# Altium footprint library SJ1-3533NG.PcbLib: 1 footprints
Each footprint in its own frame and in the unit in brackets; x right, y up, seen from the top. Pads: shape width x height; smd on the part's side, far side on the other; paste and mask are expansions set on the pad; w line width, h text height; cw(c..) or ccw(c..) is an arc to the next point about the centre after c.
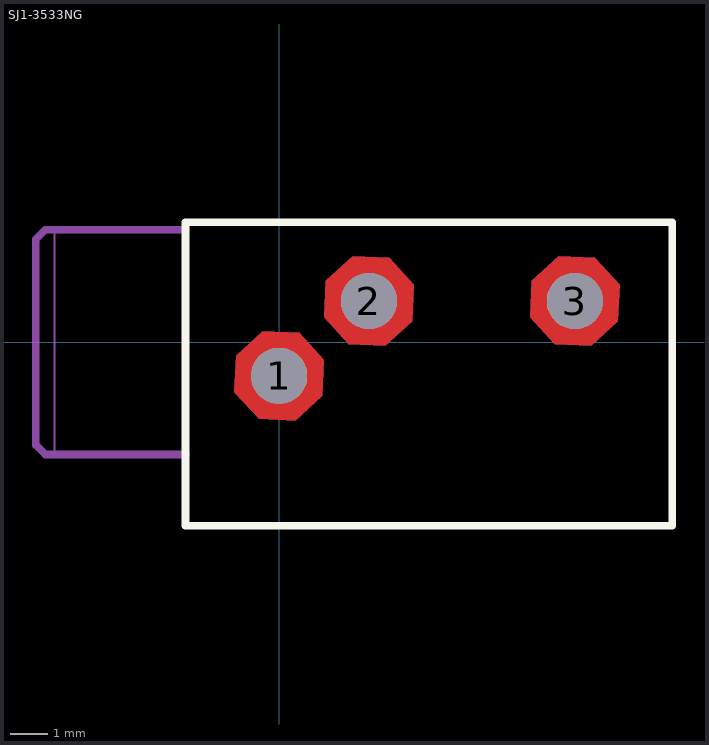
[diagram p0: the footprint, top view; thin cyan lines are the x and y axes]

## SJ1-3533NG [mm]
pads (3):
  round 1.5 hole 1.5: 1(0,-0.9) 2(2.4,1.1) 3(7.9,1.1)
Top Layer:
  region: 9.093,1.534 8.437,2.251 7.466,2.293 6.749,1.637 6.707,0.666 7.363,-0.051 8.334,-0.093 9.051,0.563
  region: 3.593,1.534 2.937,2.251 1.966,2.293 1.249,1.637 1.207,0.666 1.863,-0.051 2.834,-0.093 3.551,0.563
  region: 1.193,-0.466 0.537,0.251 -0.434,0.293 -1.151,-0.363 -1.193,-1.334 -0.537,-2.051 0.434,-2.093 1.151,-1.437
Bottom Layer:
  region: 9.093,1.534 8.437,2.251 7.466,2.293 6.749,1.637 6.707,0.666 7.363,-0.051 8.334,-0.093 9.051,0.563
  region: 3.593,1.534 2.937,2.251 1.966,2.293 1.249,1.637 1.207,0.666 1.863,-0.051 2.834,-0.093 3.551,0.563
  region: 1.193,-0.466 0.537,0.251 -0.434,0.293 -1.151,-0.363 -1.193,-1.334 -0.537,-2.051 0.434,-2.093 1.151,-1.437
Top Overlay:
  lines w0.203: -2.5,-4.9 -2.5,3.2 10.5,3.2 10.5,-4.9 -2.5,-4.9
Mechanical 1:
  lines w0.051: -6,-3 -6,3
  lines w0.203: -2.5,-3 -6,-3 -6.246,-3 -6.5,-2.746 -6.5,2.746 -6.246,3 -6,3 -2.5,3
Multi-Layer:
  region: 9.093,1.534 8.437,2.251 7.466,2.293 6.749,1.637 6.707,0.666 7.363,-0.051 8.334,-0.093 9.051,0.563
  region: 3.593,1.534 2.937,2.251 1.966,2.293 1.249,1.637 1.207,0.666 1.863,-0.051 2.834,-0.093 3.551,0.563
  region: 1.193,-0.466 0.537,0.251 -0.434,0.293 -1.151,-0.363 -1.193,-1.334 -0.537,-2.051 0.434,-2.093 1.151,-1.437